# Altium integrated library USB_C_powermeter.IntLib: 24 symbols
Pins are listed as number, name and electrical type; pins without a type are passive.

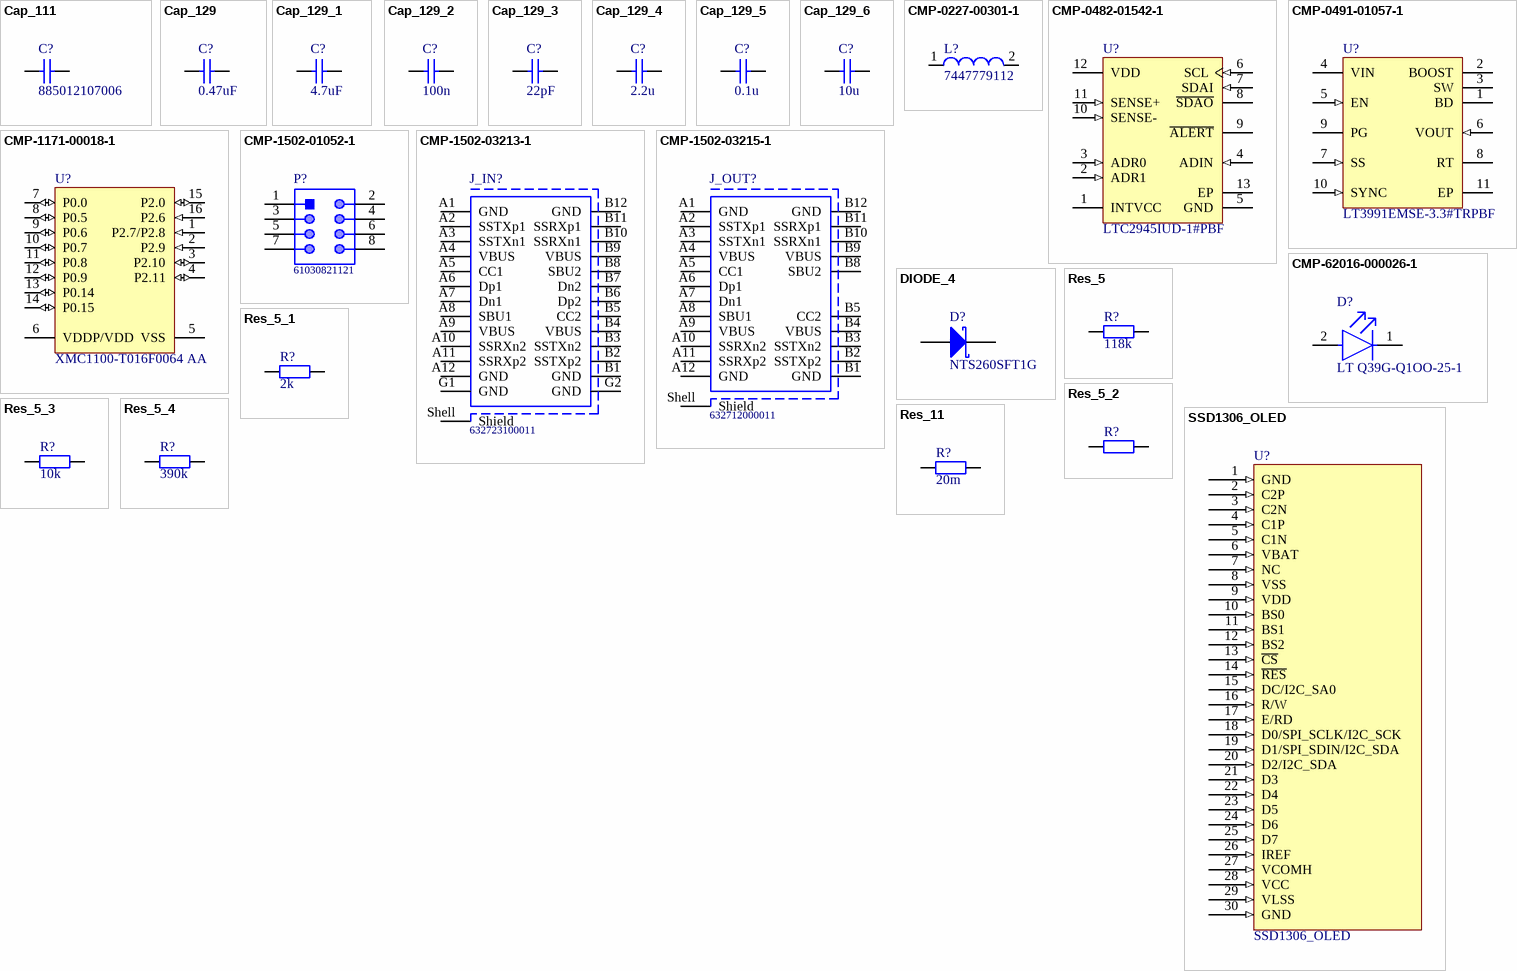
[diagram p0: symbols Cap_111 to SSD1306_OLED]

## Cap_111
designator C?, comment 885012107006
Name: Cap_cer_18p_50V; RS_number: 723-6228; QR: 0; Capacity: 18p; Voltage: 50V; UID: Cap_111; Name_Hyperlink: Keramikkondensator SMT 18 pF 50 VDC; ComponentLink1URL: javascript:Richfaces.showModalPanel('quickViewModalPanel', %7burl:'/web/p/products/723-6228',viewMode:'quickView'%7d);; mounting: SMD
footprint _0805
pins: 1, 2

## Cap_129
designator C?, comment 0.47uF
Name: Cap_0603; QR: 0; UID: Cap_129; ComponentLink1URL: #WERT!; mounting: SMD
footprint _0603
pins: 1, 2

## Cap_129_1
designator C?, comment 4.7uF
Name: Cap_0603; QR: 0; UID: Cap_129; ComponentLink1URL: #WERT!; mounting: SMD
footprint _0603
pins: 1, 2

## Cap_129_2
designator C?, comment 100n
Name: Cap_0603; QR: 0; UID: Cap_129; ComponentLink1URL: #WERT!; mounting: SMD
footprint _0603
pins: 1, 2

## Cap_129_3
designator C?, comment 22pF
Name: Cap_0603; QR: 0; UID: Cap_129; ComponentLink1URL: #WERT!; mounting: SMD
footprint _0603
pins: 1, 2

## Cap_129_4
designator C?, comment 2.2u
Name: Cap_0603; QR: 0; UID: Cap_129; ComponentLink1URL: #WERT!; mounting: SMD
footprint _0603
pins: 1, 2

## Cap_129_5
designator C?, comment 0.1u
Name: Cap_0603; QR: 0; UID: Cap_129; ComponentLink1URL: #WERT!; mounting: SMD
footprint _0603
pins: 1, 2

## Cap_129_6
designator C?, comment 10u
Name: Cap_0603; QR: 0; UID: Cap_129; ComponentLink1URL: #WERT!; mounting: SMD
footprint _0603
pins: 1, 2

## CMP-0227-00301-1
designator L?, comment 7447779112
SMD-Shielded Power Inductor WE-PD, L = 12.0 µH; Manufacturer: Wurth Electronics; Inductance: 12.0 ÂµH; PackageReference: WE-PD-M-PB; PackageVersion: 2008; DatasheetVersion: ver 10, Jan-2008; ComponentLink1URL: http://www.we-online.com; ComponentLink2URL: http://www.we-online.de/katalog/media/pdf/7447779112.pdf; ComponentLink1Description: Manufacturer Link; PackageDescription: SMD Inductor, 2-Leads, Body 7.3 x 7.3 mm; ComponentLink2Description: Datasheet; Manufacturer Part Number: 7447779112
footprint WE-PD-M-PB (SMD Inductor, 2-Leads, Body 7.3x7.3x4.5 mm)
pins: 1, 2

## CMP-0482-01542-1
designator U?, comment LTC2945IUD-1#PBF
Wide Range I2C Power Monitor, 12-pin QFN (UD-12), -40 to 85 degC, Pb-Free; Manufacturer: Linear Technology; Manufacturer: Analog Devices / Linear Technology; Number of Supplies(#): 1; ComponentLink2Description: Datasheet; Mounting Technology: Surface Mount; Code_JEDEC: MO-220; ComponentLink1Description: Manufacturer URL; PackageReference: UD-12; ComponentLink3Description: Package Specification; PartNumber: LTC2945IUD-1#PBF; ComponentLink3URL: http://cds.linear.com/docs/en/packaging/QFN_12_%2005-08-1855.pdf; PackageVersion: Rev. Ã˜, 06/2010; ComponentLink1URL: http://www.linear.com/; RoHS: TRUE; PackageDescription: 12-Pin Plastic QFN, Body 3 x 3 mm, Pitch 0.5 mm; ComponentLink2URL: http://cds.linear.com/docs/en/datasheet/2945f.pdf; Manufacturer Part Number: LTC2945IUD-1#PBF
footprint LT-UD-12_L (QFN, 12-Leads, Body 3.1x3.1mm, Pitch 0.5mm, Thermal Pad 1.65x1.65mm, IPC High Density)
footprint LT-UD-12_N (QFN, 12-Leads, Body 3.1x3.1mm, Pitch 0.5mm, Thermal Pad 1.65x1.65mm, IPC Medium Density)
footprint LT-UD-12_M (QFN, 12-Leads, Body 3.1x3.1mm, Pitch 0.5mm, Thermal Pad 1.65x1.65mm, IPC Low Density)
pins: 1 INTVCC (power) "Internal Low Voltage Supply Input/Output. This pin is used to power internal circuitry. It can be configured as a direct input for a low voltage supply, as linear regulator from higher voltage supply connected to VDD, or as (See Datasheet)", 2 ADR1 (in) "I2C Device Address Inputs. Connecting these pins to INTVCC, GND or leaving the pins open configures one of nine possible addresses. See Table 1 in Applications Information section for details.", 3 ADR0 (in) "I2C Device Address Inputs. Connecting these pins to INTVCC, GND or leaving the pins open configures one of nine possible addresses. See Table 1 in Applications Information section for details.", 4 ADIN (in) "ADC Input. The onboard ADC measures voltages between 0V and 2.048V. Tie to ground if unused.", 5 GND (power) "Device Ground.", 6 SCL (in) "I2C Bus Clock Input. Data at the SDAI pin is shifted in or out on rising edges of SCL. This pin is driven by an open-collector output from a master controller. An external pull-up resistor or current source is required and (See Datasheet)", 7 SDAI (in) "I2C Bus Data Input. Used for shifting in address, command or data bits. This pin is driven by an opencollector output from a master controller. An external pull-up resistor or current source is required and can be placed (See Datasheet)", 8 ~{SDAO} (oc) "Inverted I2C Bus Data Output. Open-drain output used for sending data back to the master controller or acknowledging a write operation. Data is inverted for convenience of opto-isolation. An external pull-up resistor or (See Datasheet)", 9 ~{ALERT} (oc) "Fault Alert Output. Open drain logic output that is pulled to ground after an ADC conversion resulted in a fault to alert the host controller. A fault alert is enabled by setting the corresponding bit in the ALERT register (See Datasheet)", 10 SENSE- (in) "Current Sense Input. Connect an external sense resistor between SENSE+ and SENSE-. The differential voltage between SENSE+ and SENSE- is monitored by the onboard ADC with a full-scale sense voltage of 102.4mV.", 11 SENSE+ (in) "Supply Voltage and Current Sense Input. Used as a supply and current sense input for the internal current sense amplifier. The voltage at this pin is monitored by the onboard ADC with a full-scale input range of 102.4V. See (See Datasheet)", 12 VDD (power) "High Voltage Supply Input. This pin powers an internal series regulator with input voltages ranging from 4V to 80V and produces 5V at INTVCC when the input voltage is above 7V. Connect a bypass capacitor between 0.1uF and (See Datasheet)", 13 EP (power) "Exposed pad may be left open or connected to device ground. For best thermal performance, connect to a large PCB area."

## CMP-0491-01057-1
designator U?, comment LT3991EMSE-3.3#TRPBF
1.2 A Step-Down Regulator with 2.8 uA Quiescent Current, 10-pin SOP (MSE-10-EDP), -40 to 125 degC, Pb-Free, Tape and Reel; Manufacturer: Linear Technology; Manufacturer: Analog Devices / Linear Technology; Frequency Adjust Range: 200kHz - 2MHz; Number of Outputs: 1; ComponentLink2URL: http://cds.linear.com/docs/en/datasheet/3991fa.pdf; DatasheetVersion: Rev. A; ComponentLink2Description: Datasheet; PackageReference: MSE-10; ComponentLink1Description: Manufacturer URL; RoHS: TRUE; ComponentLink1URL: http://www.linear.com/; PackageVersion: Rev. I, 05/2013; Packing: Tape and Reel; ComponentLink3Description: Package Specification; ComponentLink3URL: http://cds.linear.com/docs/en/packaging/05081664_I_MSE.pdf; PartNumber: LT3991EMSE-3.3#TRPBF; PackageDescription: 10-Pin Plastic MSOP, Exposed Die Pad, Body 3 x 3 mm, Pitch 0.5 mm; Mounting Technology: Surface Mount; Manufacturer Part Number: LT3991EMSE-3.3#TRPBF
footprint LT-MSE-10-EDP_N (SOP, 10-Leads, Body 3.1x3.1mm, Pitch 0.5mm, Thermal Pad 1.88x1.68mm, IPC Medium Density)
footprint LT-MSE-10-EDP_M (SOP, 10-Leads, Body 3.1x3.1mm, Pitch 0.5mm, Thermal Pad 1.88x1.68mm, IPC Low Density)
footprint LT-MSE-10-EDP_L (SOP, 10-Leads, Body 3.1x3.1mm, Pitch 0.5mm, Thermal Pad 1.88x1.68mm, IPC High Density)
pins: 1 BD (power) "This pin connects to the anode of the boost diode. The BD pin is normally connected to the output.", 2 BOOST "This pin is used to provide a drive voltage, higher than the input voltage, to the internal bipolar NPN power switch.", 3 SW (power) "The SW pin is the output of an internal power switch. Connect this pin to the inductor, catch diode, and boost capacitor.", 4 VIN (power) "The VIN pin supplies current to the LT3991’s internal circuitry and to the internal power switch. This pin must be locally bypassed.", 5 EN (in) "The part is in shutdown when this pin is low and active when this pin is high. The hysteretic threshold voltage is 1.005V going up and 0.975V going down. The EN threshold is only accurate when VIN is above 4.3V. If VIN is (See Datasheet)", 6 VOUT (in) "The LT3991- 3.3 and LT3991-5 regulate the VOUT pin to 3.3V and 5V respectively. This pin connects to the internal 10Mohm feedback divider that programs the fixed output voltage.", 7 SS (in) "A capacitor and a series resistor are tied between SS and ground to slowly ramp up the peak current limit of the LT3991 on start-up. The soft-start capacitor is only actively discharged when EN is low. The SS pin is released (See Datasheet)", 8 RT "A resistor is tied between RT and ground to set the switching frequency.", 9 PG (oc) "The PG pin is the open-drain output of an internal comparator. PGOOD remains low until the FB pin is within 9% of the final regulation voltage. PGOOD is valid when the LT3991 is enabled and VIN is above 4.3V", 10 SYNC (in) "This is the external clock synchronization input. Ground this pin for low ripple Burst Mode operation at low output loads. Tie to a clock source for synchronization, which will include pulse-skipping at low output loads. (See Datasheet)", 11 EP (power) "Ground. The exposed pad must be soldered to PCB."

## CMP-1171-00018-1
designator U?, comment XMC1100-T016F0064 AA
32 MHz XMC1100 MCU with 64 KByte Program Memory, 16 KByte SRAM, 3.3 V, 5 V, -40 to 85 degC, PG-TSSOP-16, Reel, Green; Manufacturer: Infineon; Watchdog Timer: TRUE; Serial I/O Interfaces: 2; Instruction width [bits]: 32/16; Instruction set architecture: ARM(R) Cortex(TM)-M0 (32-bit); Max Clock Frequency: 32 MHz; Type of Memory: Flash; A / D input lines (incl. FADC): 6; Type of Serial I/O Interfaces: UART, SPI, I2C, I2S; Power Modes: clock gating possible; Digital I/O Lines: 14; ComponentLink1Description: Manufacturer URL; ComponentLink3URL: http://www.infineon.com/dgdl/xmc1300_ds_v1.4_2014_05.pdf?folderId=db3a30433580b3710135a47f3eb76c98&fileId=db3a30433d1d0bbe013d256ee0aa0ccb&ack=t; PackageReference: PG-TSSOP-16-8; E2PROM Emulation (Data-Flash): TRUE; Oscillator Watchdog: TRUE; PackageDescription: 16-Pin Plastic (Green) Thin Shrink Small Outline Package, 4.4 x 5 mm Body, 0.65 mm Pitch; ComponentLink2URL: http://www.infineon.com/dgdl/xmc1100_ds_v1.3_2014_02.pdf?folderId=db3a30433580b3710135a47f3eb76c98&fileId=db3a30433d1d0bbe013d256b60160b7f&ack=t; Mounting Technology: Surface Mount; Green: TRUE; Group: XMC1100; ComponentLink2Description: Datasheet; Halogen-free: TRUE; On-chip clock generation: TRUE; Packing: Reel; PartNumber: XMC1100-T016F0064 AA; ComponentLink1URL: http://www.infineon.com/; ComponentLink3Description: Package Specification; Real Time Clock (RTC): TRUE; I/O Operation Voltages: 3.3 V, 5 V; SRAM (incl. Cache): 16 KByte; DatasheetVersion: Rev. 1.4; Program Memory: 64 KByte; PackageVersion: Rev. 1.4, 05/2014; On-chip Voltage Regulator: TRUE; Manufacturer Part Number: XMC1100-T016F0064 AA
footprint INF-PG-TSSOP-16-8_L (SOP, 16-Leads, Body 5x4.4mm, Pitch 0.65mm, IPC High Density)
footprint INF-PG-TSSOP-16-8_M (SOP, 16-Leads, Body 5x4.4mm, Pitch 0.65mm, IPC Low Density)
footprint INF-PG-TSSOP-16-8_N (SOP, 16-Leads, Body 5x4.4mm, Pitch 0.65mm, IPC Medium Density)
pins: 1 P2.7/P2.8 (in), 2 P2.9 (in), 3 P2.10 (io), 4 P2.11 (io), 5 VSS (power) "Supply GND, ADC reference GND", 6 VDDP/VDD (power), 7 P0.0 (io), 8 P0.5 (io), 9 P0.6 (io), 10 P0.7 (io), 11 P0.8 (io), 12 P0.9 (io), 13 P0.14 (io), 14 P0.15 (io), 15 P2.0 (io), 16 P2.6 (in)

## CMP-1502-01052-1
designator P?, comment 61030821121
SMT Vertical Pin Header WR-PHD, Pitch 2.54 mm, Dual Row, 8 pins; Manufacturer: Wurth Elektronik; Manufacturer: Wurth Electronics; Pitch: 2.54mm; Withstanding Voltage: 500VAC; Contact Resistance: 20mOhm; Pin Number: 8; Working Voltage: 250VAC; Rated Current: 3A; Gender: Male; Publisher: WurthElektronik; Orientation: Vertical; Manufacturer URL: http://www.we-online.de; Packaging: TapeandReel; Package Reference: 61030821121; Mounting Technology: SMT; Part Number: 61030821121; Datasheet URL: https://katalog.we-online.de/em/datasheet/6103xx21121.pdf; Row Number: Dual; Operating Temperature: -40to125degC; Manufacturer Part Number: 61030821121
footprint 61030821121 (Pin Header, pitch 2.54 mm, SMD, Vertical, dual row, 8p)
pins: 1, 2, 3, 4, 5, 6, 7, 8

## CMP-1502-03213-1
designator J_IN?, comment 632723100011
USB 3.1 Type C Receptacle WR-COM, Horizontal, SMT / THT; Manufacturer: Wurth Elektronik; Manufacturer: Wurth Electronics; Working Voltage: 20VDC; Rated Current: 5A; Contact Resistance: 30mOhm; Operating Temperature: -40to105degC; Publisher: WurthElektronik; Gender: Receptacle; Part Number: 632723100011; Mounting Technology: SMT/THT; Datasheet URL: https://katalog.we-online.de/em/datasheet/632723x00011%282%29.pdf; Connector Type: USB3.1TypeC; Manufacturer URL: http://www.we-online.de; Orientation: Horizontal; Package Reference: 632723100011; Packaging: TapeandReel; Manufacturer Part Number: 632723100011
footprint 632723100011 (USB 3.1 Type C Receptacle Horizontal THR)
pins: A1 GND, A2 SSTXp1, A3 SSTXn1, A4 VBUS, A5 CC1, A6 Dp1, A7 Dn1, A8 SBU1, A9 VBUS, A10 SSRXn2, A11 SSRXp2, A12 GND, B1 GND, B2 SSTXp2, B3 SSTXn2, B4 VBUS, B5 CC2, B6 Dp2, B7 Dn2, B8 SBU2, B9 VBUS, B10 SSRXn1, B11 SSRXp1, B12 GND, G1 GND, G2 GND, Shell Shield

## CMP-1502-03215-1
designator J_OUT?, comment 632712000011
USB 3.1 Type C Plug WR-COM, Horizontal, SMT; Manufacturer: Wurth Elektronik; Manufacturer: Wurth Electronics; Contact Resistance: 30mOhm; Rated Current: 5A; Working Voltage: 20VDC; Gender: Plug; Part Number: 632712000011; Operating Temperature: -25to105degC; Mounting Technology: SMT; Packaging: TapeandReel; Manufacturer URL: http://www.we-online.de; Datasheet URL: https://katalog.we-online.de/em/datasheet/632712000011.pdf; Connector Type: USB3.1TypeC; Orientation: Horizontal; Publisher: WurthElektronik; Package Reference: 632712000011; Manufacturer Part Number: 632712000011
footprint 632712000011 (USB 3.1 Type C Plug Horizontal SMT)
pins: A1 GND, A2 SSTXp1, A3 SSTXn1, A4 VBUS, A5 CC1, A6 Dp1, A7 Dn1, A8 SBU1, A9 VBUS, A10 SSRXn2, A11 SSRXp2, A12 GND, B1 GND, B2 SSTXp2, B3 SSTXn2, B4 VBUS, B5 CC2, B8 SBU2, B9 VBUS, B10 SSRXn1, B11 SSRXp1, B12 GND, Shell Shield

## CMP-62016-000026-1
designator D?, comment LT Q39G-Q1OO-25-1
LED GREEN DIFFUSED 0603 SMD; Manufacturer: Osram Opto; Reverse Voltage: 5V; Test Current: 5mA; Number of Elements: 1; Luminous Flux: 0.55lm; Forward Voltage: 3.2V; Forward Current: 15mA; Luminous Intensity: 280mcd; Dominant Wavelength: 530nm; Depth: 0.9mm; Number of Pins: 2; Mount: Surface Mount; Packaging: Tape and Reel; Lens Style: Diffused; Min Operating Temperature: -40°C; Radiation Hardening: No; Case/Package: SMD/SMT; Max Operating Temperature: 85°C; Number of LEDs: 1; Length: 1.7mm; Color: Green; Manufacturer Part Number: LT Q39G-Q1OO-25-1
footprint FP-LT_Q39G-MFG
pins: 1 C, 2 A

## DIODE_4
designator D?, comment NTS260SFT1G
Name: 11DQ06; Type: Schottky; Current / Power: 1.1 A; RS_number: 254-0702; QR: 1; UID: DIODE_4; Name_Hyperlink: Schottky-Diode 11DQ06; ComponentLink1URL: http://at.rs-online.com/web/search/searchBrowseAction.html?method=getProduct&R=2540702; mounting: THT
footprint SOD_123
pins: 1 A, 2 K

## Res_5
designator R?, comment 118k
Name: Res_0603; UID: Res_5; ComponentLink1URL: #WERT!; mounting: SMD
footprint _0603
pins: 1, 2

## Res_5_1
designator R?, comment 2k
Name: Res_0603; UID: Res_5; ComponentLink1URL: #WERT!; mounting: SMD
footprint _0603
pins: 1, 2

## Res_5_2
designator R?
Name: Res_0603; UID: Res_5; ComponentLink1URL: #WERT!; mounting: SMD
footprint _0603
pins: 1, 2

## Res_5_3
designator R?, comment 10k
Name: Res_0603; UID: Res_5; ComponentLink1URL: #WERT!; mounting: SMD
footprint _0603
pins: 1, 2

## Res_5_4
designator R?, comment 390k
Name: Res_0603; UID: Res_5; ComponentLink1URL: #WERT!; mounting: SMD
footprint _0603
pins: 1, 2

## Res_11
designator R?, comment 20m
Name: Res_2512; UID: Res_11; ComponentLink1URL: #WERT!; mounting: SMD
footprint _2512
pins: 1, 2

## SSD1306_OLED
designator U?
footprint SSD1306
pins: 1 GND (in), 2 C2P (in), 3 C2N (in), 4 C1P (in), 5 C1N (in), 6 VBAT (in), 7 NC (in), 8 VSS (in), 9 VDD (in), 10 BS0 (in), 11 BS1 (in), 12 BS2 (in), 13 ~{CS} (in), 14 ~{RES} (in), 15 DC/I2C_SA0 (in), 16 R/W (in), 17 E/RD (in), 18 D0/SPI_SCLK/I2C_SCK (in), 19 D1/SPI_SDIN/I2C_SDA (in), 20 D2/I2C_SDA (in), 21 D3 (in), 22 D4 (in), 23 D5 (in), 24 D6 (in), 25 D7 (in), 26 IREF (in), 27 VCOMH (in), 28 VCC (in), 29 VLSS (in), 30 GND (in)